# Altium integrated library TI Data Converters Analog to Digital Converter.IntLib: 2197 symbols (part 93 of 168)
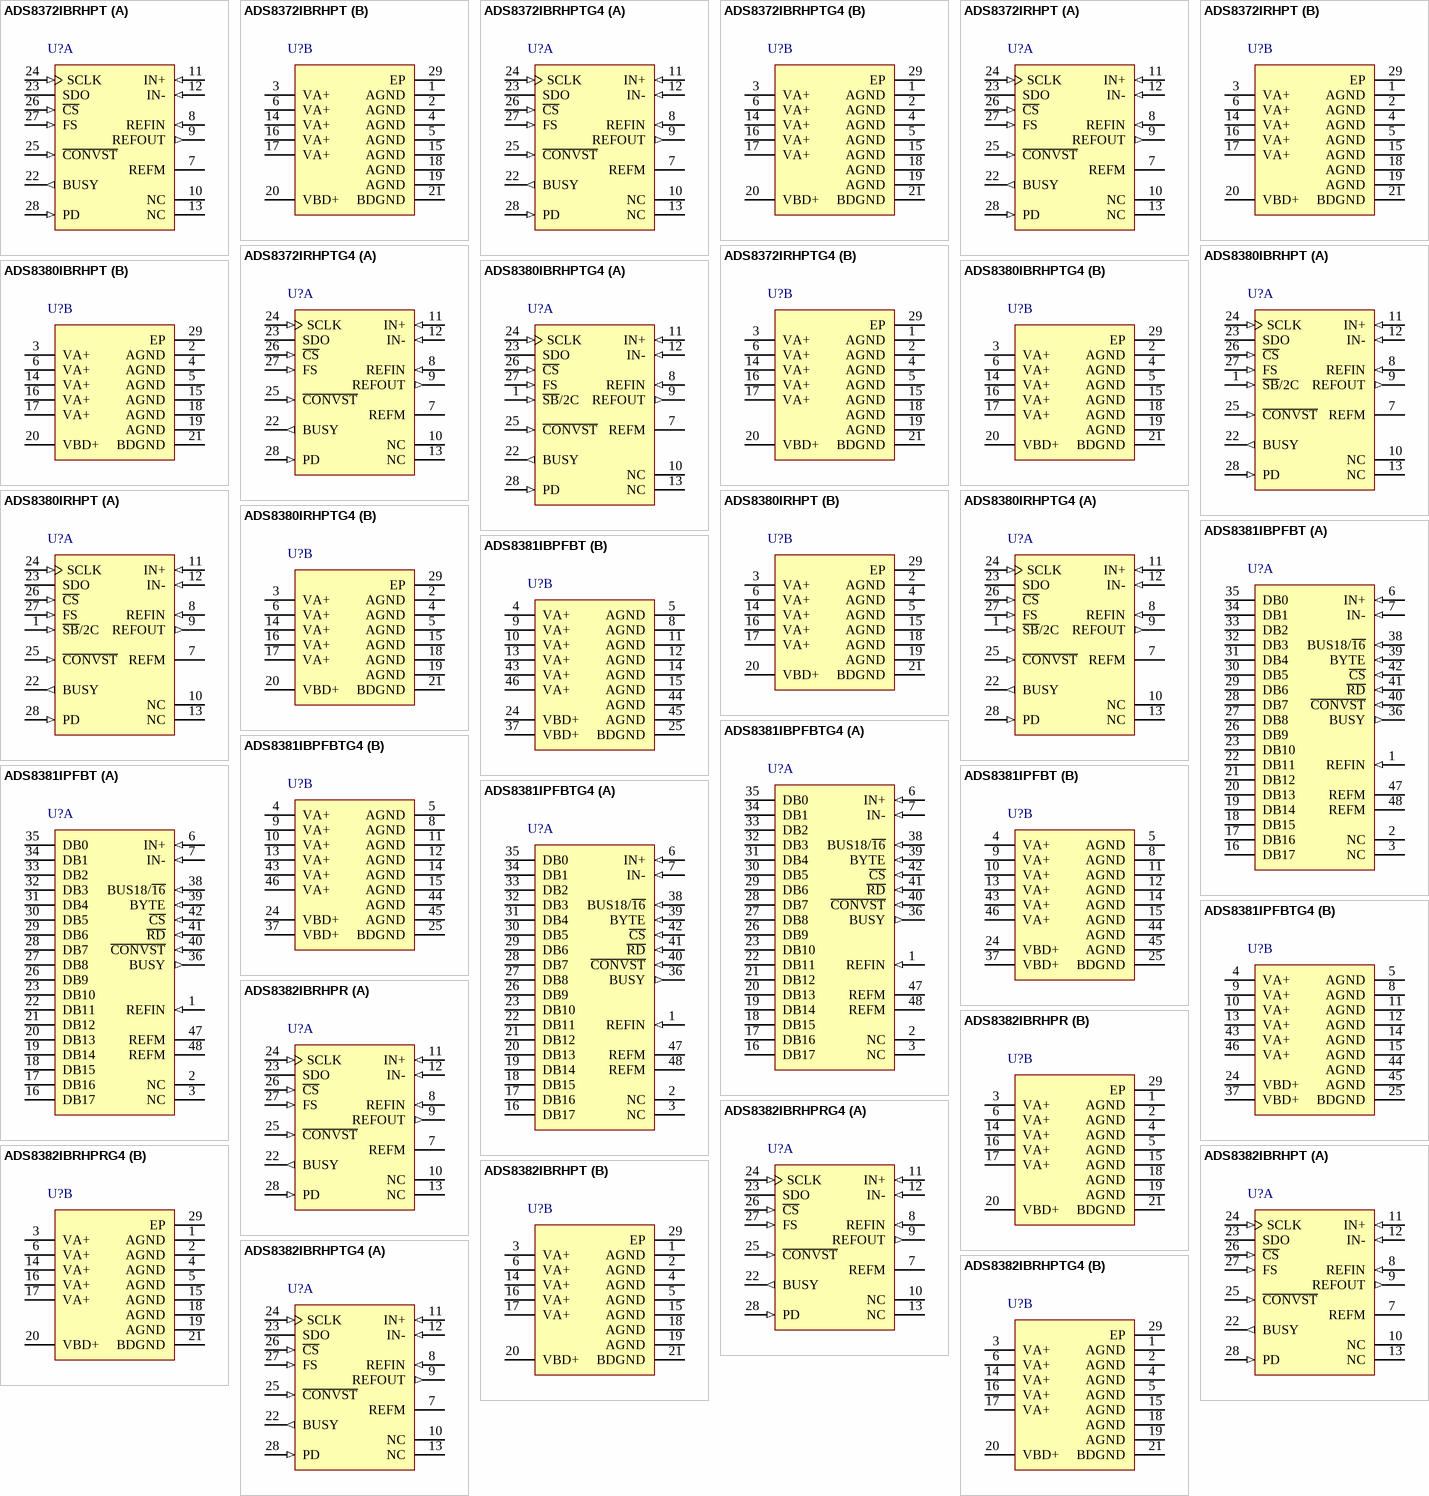
[diagram p218: symbols ADS8372IBRHPT to ADS8382IBRHPTG4]

## ADS8382IBRHPR
designator U?
18-Bit 600 kSPS Serial ADC with Reference and Pseudo Bipolar, Fully Differential Input, -40 to 85 degC, 28-pin QFN (RHP28), Green (RoHS & no Sb/Br); Manufacturer: Texas Instruments; PartNumber: ADS8382IBRHPR; # Input Channels: 1; Analog Voltage AV/DD(Max)(V): 5.25; Analog Voltage AV/DD(Min)(V): 4.75; Architecture: SAR; Digital Supply(Min)(V): 2.7; INL(Max)(+/-LSB): 3; Interface: Serial SPI; Resolution(Bits): 18; Sample Rate (max)(SPS): 600k; SFDR(dB): 120; SINAD(dB): 96; SubFamily: Precision ADC (<=10MSPS); DatasheetVersion: SLAS416B; PackageVersion: 4205387/C, 01/2011; PackageReference: RHP28-4450X4450TP; PackageDescription: 28-Lead, Plastic Flat Pack, Body Size 6 x 6 mm, Pitch 0.65 mm; Supplier 1: Digi-Key; Supplier Part Number 1: ADS7815U/1KE4-ND; Supplier 2: Mouser; Supplier Part Number 2: 595-ADS7815U/1KE4; Digital Supply(Max)(V): 5.25; Eco-Plan: Green (RoHS & no Sb/Br); SNR(dB): 96; Mounting Technology: Surface Mount; ComponentLink1Description: Manufacturer URL; ComponentLink1URL: http://www.ti.com/; ComponentLink2Description: Datasheet; ComponentLink2URL: http://www.ti.com/general/docs/lit/getliterature.tsp?genericPartNumber=ADS8382&fileType=pdf; ComponentLink3Description: Package Specification; ComponentLink3URL: http://www.ti.com/litv/pdf/mpqf154b
footprint TI-RHP28-4450X4450TP_V (QFN, 28-Leads, Body 6x6mm, Pitch 0.65mm, Thermal Pad 4.45x4.45mm)
part A pins: 7 REFM (power) "Reference ground. To be connected to analog ground plane.", 8 REFIN (in) "Reference (positive) input. REFIN must be decoupled with REFM pin using 0.1-uF bypass capacitor and 1-uF storage capacitor.", 9 REFOUT (out) "Internal reference output. Shorted to REFIN pin only when internal reference is used.", 10 NC "No connection", 11 IN+ (in) "Noninverting analog input channel", 12 IN- (in) "Inverting analog input channel", 13 NC "No connection", 22 BUSY (out) "Status output. This pin is high when conversion is in progress.", 23 SDO (hiz) "Serial data out. All bits except MSB are shifted out at the rising edge of SCLK.", 24 SCLK (in) "Serial clock. Data is shifted onto SDO with the rising edge of this clock. This signal is qualified with C\S\ internally.", 25 ~{CONVST} (in) "Convert start. This signal is qualified with C\S\ internally.", 26 ~{CS} (in) "Chip select", 27 FS (in) "Frame sync. This signal is qualified with C\S\ internally.", 28 PD (in) "Power down. Device resets and powers down when this signal is high."
part B pins: 1 AGND (power) "Analog ground pins. AGND must be shorted to analog ground plane below the device.", 2 AGND (power) "Analog ground pins. AGND must be shorted to analog ground plane below the device.", 3 VA+ (power) "Analog power supplies", 4 AGND (power) "Analog ground pins. AGND must be shorted to analog ground plane below the device.", 5 AGND (power) "Analog ground pins. AGND must be shorted to analog ground plane below the device.", 6 VA+ (power) "Analog power supplies", 14 VA+ (power) "Analog power supplies", 15 AGND (power) "Analog ground pins. AGND must be shorted to analog ground plane below the device.", 16 VA+ (power) "Analog power supplies", 17 VA+ (power) "Analog power supplies", 18 AGND (power) "Analog ground pins. AGND must be shorted to analog ground plane below the device.", 19 AGND (power) "Analog ground pins. AGND must be shorted to analog ground plane below the device.", 20 VBD+ (power) "Digital power supply for all digital inputs and outputs.", 21 BDGND (power) "Digital ground for all digital inputs and outputs. BDGND must be shorted to the analog ground plane below the device.", 29 EP "The package thermal pad must be soldered to the printed circuit board for thermal and mechanical performance"

## ADS8382IBRHPRG4
designator U?
18-Bit 600 kSPS Serial ADC with Reference and Pseudo Bipolar, Fully Differential Input, -40 to 85 degC, 28-pin QFN (RHP28), Green (RoHS & no Sb/Br); Manufacturer: Texas Instruments; PartNumber: ADS8382IBRHPRG4; # Input Channels: 1; Analog Voltage AV/DD(Max)(V): 5.25; Analog Voltage AV/DD(Min)(V): 4.75; Architecture: SAR; Digital Supply(Min)(V): 2.7; INL(Max)(+/-LSB): 3; Interface: Serial SPI; Resolution(Bits): 18; Sample Rate (max)(SPS): 600k; SFDR(dB): 120; SINAD(dB): 96; SubFamily: Precision ADC (<=10MSPS); DatasheetVersion: SLAS416B; PackageVersion: 4205387/C, 01/2011; PackageReference: RHP28-4450X4450TP; PackageDescription: 28-Lead, Plastic Flat Pack, Body Size 6 x 6 mm, Pitch 0.65 mm; Supplier 1: Digi-Key; Supplier Part Number 1: ADS7815UE4-ND; Supplier 2: Farnell; Supplier Part Number 2: 1206867; Supplier 3: Mouser; Supplier Part Number 3: 595-ADS7815UE4; Digital Supply(Max)(V): 5.25; Eco-Plan: Green (RoHS & no Sb/Br); SNR(dB): 96; Mounting Technology: Surface Mount; ComponentLink1Description: Manufacturer URL; ComponentLink1URL: http://www.ti.com/; ComponentLink2Description: Datasheet; ComponentLink2URL: http://www.ti.com/general/docs/lit/getliterature.tsp?genericPartNumber=ADS8382&fileType=pdf; ComponentLink3Description: Package Specification; ComponentLink3URL: http://www.ti.com/litv/pdf/mpqf154b
footprint TI-RHP28-4450X4450TP_V (QFN, 28-Leads, Body 6x6mm, Pitch 0.65mm, Thermal Pad 4.45x4.45mm)
part A pins: 7 REFM (power) "Reference ground. To be connected to analog ground plane.", 8 REFIN (in) "Reference (positive) input. REFIN must be decoupled with REFM pin using 0.1-uF bypass capacitor and 1-uF storage capacitor.", 9 REFOUT (out) "Internal reference output. Shorted to REFIN pin only when internal reference is used.", 10 NC "No connection", 11 IN+ (in) "Noninverting analog input channel", 12 IN- (in) "Inverting analog input channel", 13 NC "No connection", 22 BUSY (out) "Status output. This pin is high when conversion is in progress.", 23 SDO (hiz) "Serial data out. All bits except MSB are shifted out at the rising edge of SCLK.", 24 SCLK (in) "Serial clock. Data is shifted onto SDO with the rising edge of this clock. This signal is qualified with C\S\ internally.", 25 ~{CONVST} (in) "Convert start. This signal is qualified with C\S\ internally.", 26 ~{CS} (in) "Chip select", 27 FS (in) "Frame sync. This signal is qualified with C\S\ internally.", 28 PD (in) "Power down. Device resets and powers down when this signal is high."
part B pins: 1 AGND (power) "Analog ground pins. AGND must be shorted to analog ground plane below the device.", 2 AGND (power) "Analog ground pins. AGND must be shorted to analog ground plane below the device.", 3 VA+ (power) "Analog power supplies", 4 AGND (power) "Analog ground pins. AGND must be shorted to analog ground plane below the device.", 5 AGND (power) "Analog ground pins. AGND must be shorted to analog ground plane below the device.", 6 VA+ (power) "Analog power supplies", 14 VA+ (power) "Analog power supplies", 15 AGND (power) "Analog ground pins. AGND must be shorted to analog ground plane below the device.", 16 VA+ (power) "Analog power supplies", 17 VA+ (power) "Analog power supplies", 18 AGND (power) "Analog ground pins. AGND must be shorted to analog ground plane below the device.", 19 AGND (power) "Analog ground pins. AGND must be shorted to analog ground plane below the device.", 20 VBD+ (power) "Digital power supply for all digital inputs and outputs.", 21 BDGND (power) "Digital ground for all digital inputs and outputs. BDGND must be shorted to the analog ground plane below the device.", 29 EP "The package thermal pad must be soldered to the printed circuit board for thermal and mechanical performance"

## ADS8382IBRHPT
designator U?
18-Bit 600 kSPS Serial ADC with Reference and Pseudo Bipolar, Fully Differential Input, -40 to 85 degC, 28-pin QFN (RHP28), Green (RoHS & no Sb/Br); Manufacturer: Texas Instruments; PartNumber: ADS8382IBRHPT; # Input Channels: 1; Analog Voltage AV/DD(Max)(V): 5.25; Analog Voltage AV/DD(Min)(V): 4.75; Architecture: SAR; Digital Supply(Min)(V): 2.7; INL(Max)(+/-LSB): 3; Interface: Serial SPI; Resolution(Bits): 18; Sample Rate (max)(SPS): 600k; SFDR(dB): 120; SINAD(dB): 96; SubFamily: Precision ADC (<=10MSPS); DatasheetVersion: SLAS416B; PackageVersion: 4205387/C, 01/2011; PackageReference: RHP28-4450X4450TP; PackageDescription: 28-Lead, Plastic Flat Pack, Body Size 6 x 6 mm, Pitch 0.65 mm; Supplier 1: Digi-Key; Supplier Part Number 1: ADS7815UG4-ND; Supplier 2: Mouser; Supplier Part Number 2: 595-ADS7815UG4; Digital Supply(Max)(V): 5.25; Eco-Plan: Green (RoHS & no Sb/Br); SNR(dB): 96; Mounting Technology: Surface Mount; ComponentLink1Description: Manufacturer URL; ComponentLink1URL: http://www.ti.com/; ComponentLink2Description: Datasheet; ComponentLink2URL: http://www.ti.com/general/docs/lit/getliterature.tsp?genericPartNumber=ADS8382&fileType=pdf; ComponentLink3Description: Package Specification; ComponentLink3URL: http://www.ti.com/litv/pdf/mpqf154b
footprint TI-RHP28-4450X4450TP_V (QFN, 28-Leads, Body 6x6mm, Pitch 0.65mm, Thermal Pad 4.45x4.45mm)
part A pins: 7 REFM (power) "Reference ground. To be connected to analog ground plane.", 8 REFIN (in) "Reference (positive) input. REFIN must be decoupled with REFM pin using 0.1-uF bypass capacitor and 1-uF storage capacitor.", 9 REFOUT (out) "Internal reference output. Shorted to REFIN pin only when internal reference is used.", 10 NC "No connection", 11 IN+ (in) "Noninverting analog input channel", 12 IN- (in) "Inverting analog input channel", 13 NC "No connection", 22 BUSY (out) "Status output. This pin is high when conversion is in progress.", 23 SDO (hiz) "Serial data out. All bits except MSB are shifted out at the rising edge of SCLK.", 24 SCLK (in) "Serial clock. Data is shifted onto SDO with the rising edge of this clock. This signal is qualified with C\S\ internally.", 25 ~{CONVST} (in) "Convert start. This signal is qualified with C\S\ internally.", 26 ~{CS} (in) "Chip select", 27 FS (in) "Frame sync. This signal is qualified with C\S\ internally.", 28 PD (in) "Power down. Device resets and powers down when this signal is high."
part B pins: 1 AGND (power) "Analog ground pins. AGND must be shorted to analog ground plane below the device.", 2 AGND (power) "Analog ground pins. AGND must be shorted to analog ground plane below the device.", 3 VA+ (power) "Analog power supplies", 4 AGND (power) "Analog ground pins. AGND must be shorted to analog ground plane below the device.", 5 AGND (power) "Analog ground pins. AGND must be shorted to analog ground plane below the device.", 6 VA+ (power) "Analog power supplies", 14 VA+ (power) "Analog power supplies", 15 AGND (power) "Analog ground pins. AGND must be shorted to analog ground plane below the device.", 16 VA+ (power) "Analog power supplies", 17 VA+ (power) "Analog power supplies", 18 AGND (power) "Analog ground pins. AGND must be shorted to analog ground plane below the device.", 19 AGND (power) "Analog ground pins. AGND must be shorted to analog ground plane below the device.", 20 VBD+ (power) "Digital power supply for all digital inputs and outputs.", 21 BDGND (power) "Digital ground for all digital inputs and outputs. BDGND must be shorted to the analog ground plane below the device.", 29 EP "The package thermal pad must be soldered to the printed circuit board for thermal and mechanical performance"

## ADS8382IBRHPTG4
designator U?
18-Bit 600 kSPS Serial ADC with Reference and Pseudo Bipolar, Fully Differential Input, -40 to 85 degC, 28-pin QFN (RHP28), Green (RoHS & no Sb/Br); Manufacturer: Texas Instruments; PartNumber: ADS8382IBRHPTG4; # Input Channels: 1; Analog Voltage AV/DD(Max)(V): 5.25; Analog Voltage AV/DD(Min)(V): 4.75; Architecture: SAR; Digital Supply(Min)(V): 2.7; INL(Max)(+/-LSB): 3; Interface: Serial SPI; Resolution(Bits): 18; Sample Rate (max)(SPS): 600k; SFDR(dB): 120; SINAD(dB): 96; SubFamily: Precision ADC (<=10MSPS); DatasheetVersion: SLAS416B; PackageVersion: 4205387/C, 01/2011; PackageReference: RHP28-4450X4450TP; PackageDescription: 28-Lead, Plastic Flat Pack, Body Size 6 x 6 mm, Pitch 0.65 mm; Supplier 1: Digi-Key; Supplier Part Number 1: ADS1213E-ND; Supplier 2: Farnell; Supplier Part Number 2: 9324089; Supplier 3: Newark; Supplier Part Number 3: 74C6980; Supplier 4: Mouser; Supplier Part Number 4: 595-ADS1213E; Digital Supply(Max)(V): 5.25; Eco-Plan: Green (RoHS & no Sb/Br); SNR(dB): 96; Mounting Technology: Surface Mount; ComponentLink1Description: Manufacturer URL; ComponentLink1URL: http://www.ti.com/; ComponentLink2Description: Datasheet; ComponentLink2URL: http://www.ti.com/general/docs/lit/getliterature.tsp?genericPartNumber=ADS8382&fileType=pdf; ComponentLink3Description: Package Specification; ComponentLink3URL: http://www.ti.com/litv/pdf/mpqf154b
footprint TI-RHP28-4450X4450TP_V (QFN, 28-Leads, Body 6x6mm, Pitch 0.65mm, Thermal Pad 4.45x4.45mm)
part A pins: 7 REFM (power) "Reference ground. To be connected to analog ground plane.", 8 REFIN (in) "Reference (positive) input. REFIN must be decoupled with REFM pin using 0.1-uF bypass capacitor and 1-uF storage capacitor.", 9 REFOUT (out) "Internal reference output. Shorted to REFIN pin only when internal reference is used.", 10 NC "No connection", 11 IN+ (in) "Noninverting analog input channel", 12 IN- (in) "Inverting analog input channel", 13 NC "No connection", 22 BUSY (out) "Status output. This pin is high when conversion is in progress.", 23 SDO (hiz) "Serial data out. All bits except MSB are shifted out at the rising edge of SCLK.", 24 SCLK (in) "Serial clock. Data is shifted onto SDO with the rising edge of this clock. This signal is qualified with C\S\ internally.", 25 ~{CONVST} (in) "Convert start. This signal is qualified with C\S\ internally.", 26 ~{CS} (in) "Chip select", 27 FS (in) "Frame sync. This signal is qualified with C\S\ internally.", 28 PD (in) "Power down. Device resets and powers down when this signal is high."
part B pins: 1 AGND (power) "Analog ground pins. AGND must be shorted to analog ground plane below the device.", 2 AGND (power) "Analog ground pins. AGND must be shorted to analog ground plane below the device.", 3 VA+ (power) "Analog power supplies", 4 AGND (power) "Analog ground pins. AGND must be shorted to analog ground plane below the device.", 5 AGND (power) "Analog ground pins. AGND must be shorted to analog ground plane below the device.", 6 VA+ (power) "Analog power supplies", 14 VA+ (power) "Analog power supplies", 15 AGND (power) "Analog ground pins. AGND must be shorted to analog ground plane below the device.", 16 VA+ (power) "Analog power supplies", 17 VA+ (power) "Analog power supplies", 18 AGND (power) "Analog ground pins. AGND must be shorted to analog ground plane below the device.", 19 AGND (power) "Analog ground pins. AGND must be shorted to analog ground plane below the device.", 20 VBD+ (power) "Digital power supply for all digital inputs and outputs.", 21 BDGND (power) "Digital ground for all digital inputs and outputs. BDGND must be shorted to the analog ground plane below the device.", 29 EP "The package thermal pad must be soldered to the printed circuit board for thermal and mechanical performance"

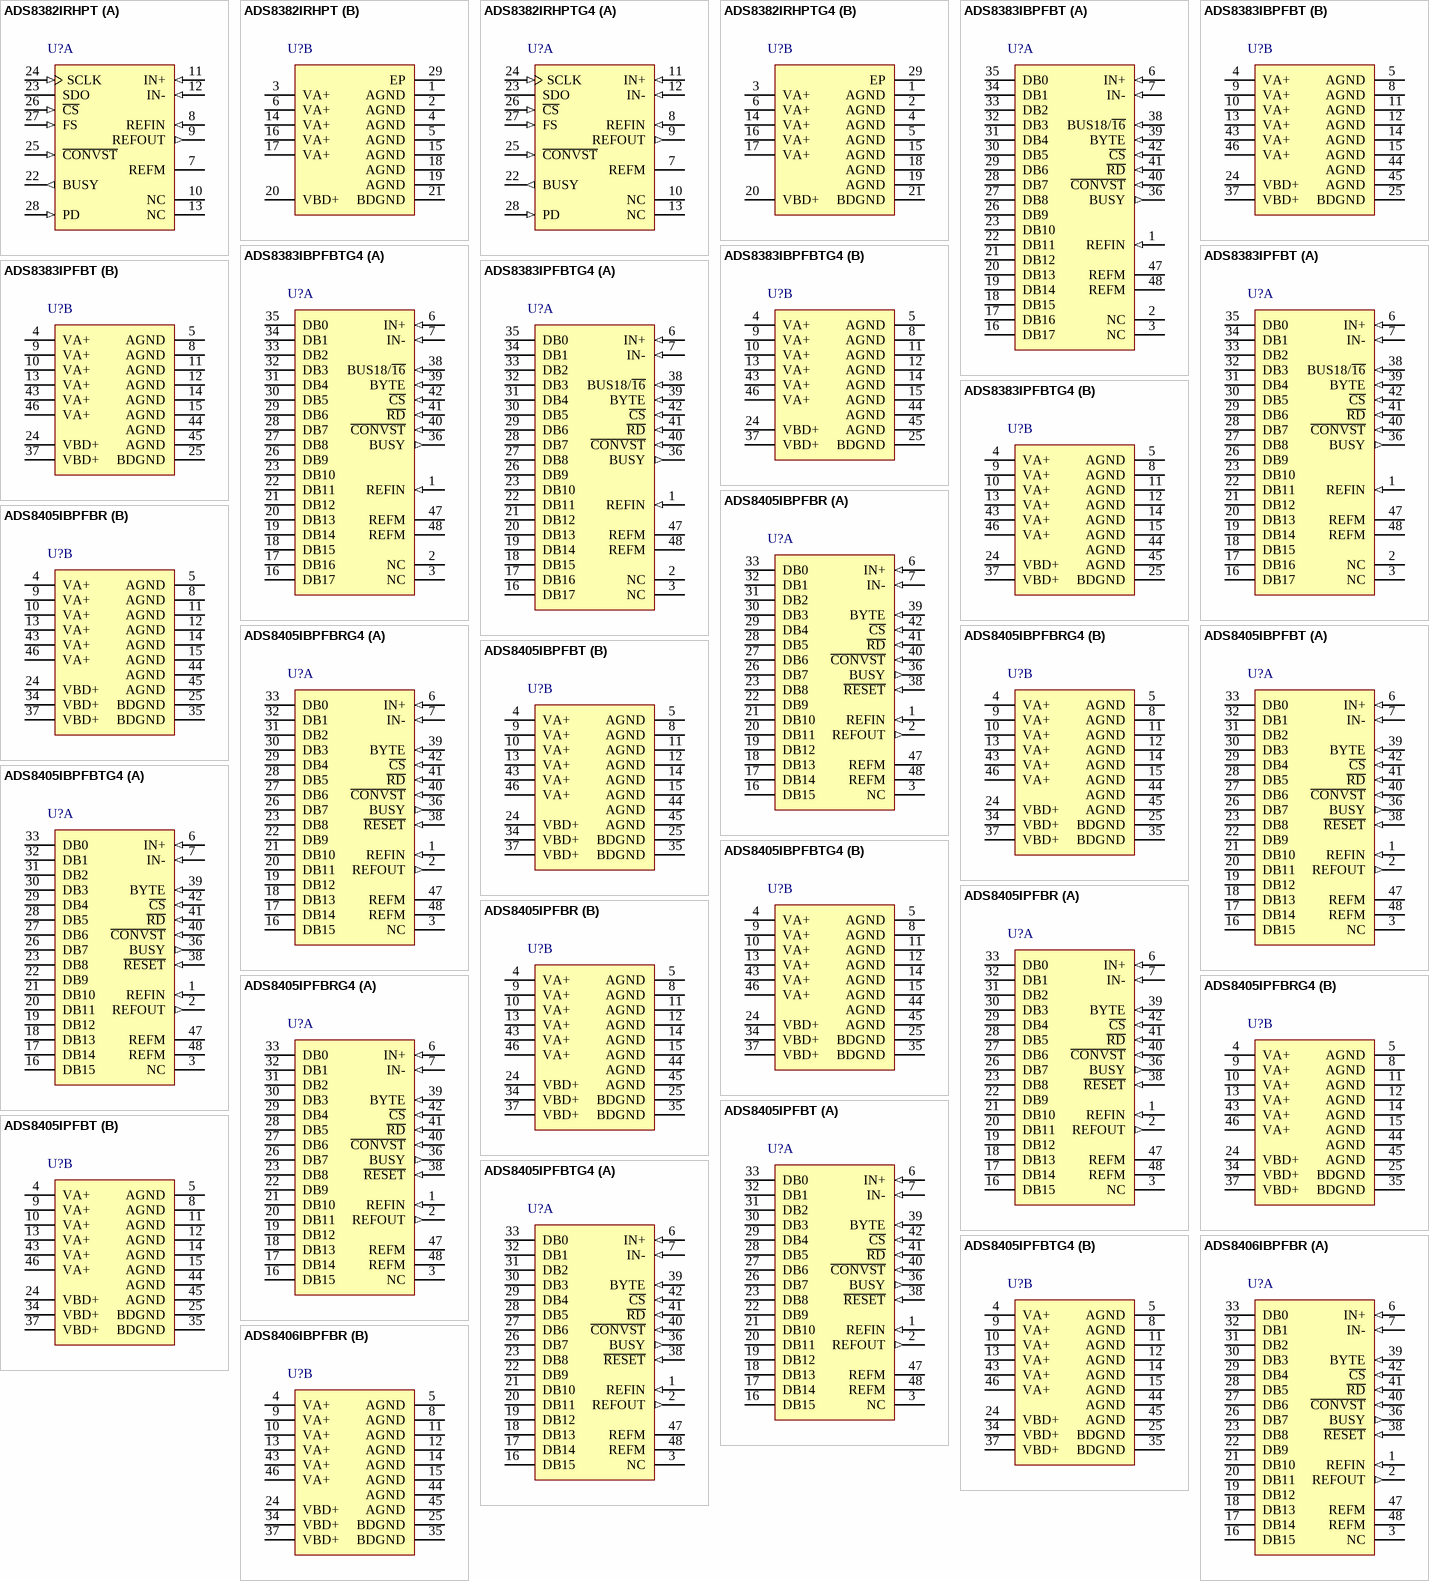
[diagram p80: symbols ADS8382IRHPT to ADS8406IBPFBR]

## ADS8382IRHPT
designator U?
18-Bit 600 kSPS Serial ADC with Reference and Pseudo Bipolar, Fully Differential Input, -40 to 85 degC, 28-pin QFN (RHP28), Green (RoHS & no Sb/Br); Manufacturer: Texas Instruments; PartNumber: ADS8382IRHPT; # Input Channels: 1; Analog Voltage AV/DD(Max)(V): 5.25; Analog Voltage AV/DD(Min)(V): 4.75; Architecture: SAR; Digital Supply(Min)(V): 2.7; INL(Max)(+/-LSB): 5; Interface: Serial SPI; Resolution(Bits): 18; Sample Rate (max)(SPS): 600k; SFDR(dB): 120; SINAD(dB): 96; SubFamily: Precision ADC (<=10MSPS); DatasheetVersion: SLAS416B; PackageVersion: 4205387/C, 01/2011; PackageReference: RHP28-4450X4450TP; PackageDescription: 28-Lead, Plastic Flat Pack, Body Size 6 x 6 mm, Pitch 0.65 mm; Supplier 1: Digi-Key; Supplier Part Number 1: ADS1213E/1K-ND; Supplier 2: Mouser; Supplier Part Number 2: 595-ADS1213E/1K; Digital Supply(Max)(V): 5.25; Eco-Plan: Green (RoHS & no Sb/Br); SNR(dB): 96; Mounting Technology: Surface Mount; ComponentLink1Description: Manufacturer URL; ComponentLink1URL: http://www.ti.com/; ComponentLink2Description: Datasheet; ComponentLink2URL: http://www.ti.com/general/docs/lit/getliterature.tsp?genericPartNumber=ADS8382&fileType=pdf; ComponentLink3Description: Package Specification; ComponentLink3URL: http://www.ti.com/litv/pdf/mpqf154b
footprint TI-RHP28-4450X4450TP_V (QFN, 28-Leads, Body 6x6mm, Pitch 0.65mm, Thermal Pad 4.45x4.45mm)
part A pins: 7 REFM (power) "Reference ground. To be connected to analog ground plane.", 8 REFIN (in) "Reference (positive) input. REFIN must be decoupled with REFM pin using 0.1-uF bypass capacitor and 1-uF storage capacitor.", 9 REFOUT (out) "Internal reference output. Shorted to REFIN pin only when internal reference is used.", 10 NC "No connection", 11 IN+ (in) "Noninverting analog input channel", 12 IN- (in) "Inverting analog input channel", 13 NC "No connection", 22 BUSY (out) "Status output. This pin is high when conversion is in progress.", 23 SDO (hiz) "Serial data out. All bits except MSB are shifted out at the rising edge of SCLK.", 24 SCLK (in) "Serial clock. Data is shifted onto SDO with the rising edge of this clock. This signal is qualified with C\S\ internally.", 25 ~{CONVST} (in) "Convert start. This signal is qualified with C\S\ internally.", 26 ~{CS} (in) "Chip select", 27 FS (in) "Frame sync. This signal is qualified with C\S\ internally.", 28 PD (in) "Power down. Device resets and powers down when this signal is high."
part B pins: 1 AGND (power) "Analog ground pins. AGND must be shorted to analog ground plane below the device.", 2 AGND (power) "Analog ground pins. AGND must be shorted to analog ground plane below the device.", 3 VA+ (power) "Analog power supplies", 4 AGND (power) "Analog ground pins. AGND must be shorted to analog ground plane below the device.", 5 AGND (power) "Analog ground pins. AGND must be shorted to analog ground plane below the device.", 6 VA+ (power) "Analog power supplies", 14 VA+ (power) "Analog power supplies", 15 AGND (power) "Analog ground pins. AGND must be shorted to analog ground plane below the device.", 16 VA+ (power) "Analog power supplies", 17 VA+ (power) "Analog power supplies", 18 AGND (power) "Analog ground pins. AGND must be shorted to analog ground plane below the device.", 19 AGND (power) "Analog ground pins. AGND must be shorted to analog ground plane below the device.", 20 VBD+ (power) "Digital power supply for all digital inputs and outputs.", 21 BDGND (power) "Digital ground for all digital inputs and outputs. BDGND must be shorted to the analog ground plane below the device.", 29 EP "The package thermal pad must be soldered to the printed circuit board for thermal and mechanical performance"

## ADS8382IRHPTG4
designator U?
18-Bit 600 kSPS Serial ADC with Reference and Pseudo Bipolar, Fully Differential Input, -40 to 85 degC, 28-pin QFN (RHP28), Green (RoHS & no Sb/Br); Manufacturer: Texas Instruments; PartNumber: ADS8382IRHPTG4; # Input Channels: 1; Analog Voltage AV/DD(Max)(V): 5.25; Analog Voltage AV/DD(Min)(V): 4.75; Architecture: SAR; Digital Supply(Min)(V): 2.7; INL(Max)(+/-LSB): 5; Interface: Serial SPI; Resolution(Bits): 18; Sample Rate (max)(SPS): 600k; SFDR(dB): 120; SINAD(dB): 96; SubFamily: Precision ADC (<=10MSPS); DatasheetVersion: SLAS416B; PackageVersion: 4205387/C, 01/2011; PackageReference: RHP28-4450X4450TP; PackageDescription: 28-Lead, Plastic Flat Pack, Body Size 6 x 6 mm, Pitch 0.65 mm; Supplier 1: Digi-Key; Supplier Part Number 1: ADS1213E/1KG4-ND; Supplier 2: Mouser; Supplier Part Number 2: 595-ADS1213E/1KG4; Digital Supply(Max)(V): 5.25; Eco-Plan: Green (RoHS & no Sb/Br); SNR(dB): 96; Mounting Technology: Surface Mount; ComponentLink1Description: Manufacturer URL; ComponentLink1URL: http://www.ti.com/; ComponentLink2Description: Datasheet; ComponentLink2URL: http://www.ti.com/general/docs/lit/getliterature.tsp?genericPartNumber=ADS8382&fileType=pdf; ComponentLink3Description: Package Specification; ComponentLink3URL: http://www.ti.com/litv/pdf/mpqf154b
footprint TI-RHP28-4450X4450TP_V (QFN, 28-Leads, Body 6x6mm, Pitch 0.65mm, Thermal Pad 4.45x4.45mm)
part A pins: 7 REFM (power) "Reference ground. To be connected to analog ground plane.", 8 REFIN (in) "Reference (positive) input. REFIN must be decoupled with REFM pin using 0.1-uF bypass capacitor and 1-uF storage capacitor.", 9 REFOUT (out) "Internal reference output. Shorted to REFIN pin only when internal reference is used.", 10 NC "No connection", 11 IN+ (in) "Noninverting analog input channel", 12 IN- (in) "Inverting analog input channel", 13 NC "No connection", 22 BUSY (out) "Status output. This pin is high when conversion is in progress.", 23 SDO (hiz) "Serial data out. All bits except MSB are shifted out at the rising edge of SCLK.", 24 SCLK (in) "Serial clock. Data is shifted onto SDO with the rising edge of this clock. This signal is qualified with C\S\ internally.", 25 ~{CONVST} (in) "Convert start. This signal is qualified with C\S\ internally.", 26 ~{CS} (in) "Chip select", 27 FS (in) "Frame sync. This signal is qualified with C\S\ internally.", 28 PD (in) "Power down. Device resets and powers down when this signal is high."
part B pins: 1 AGND (power) "Analog ground pins. AGND must be shorted to analog ground plane below the device.", 2 AGND (power) "Analog ground pins. AGND must be shorted to analog ground plane below the device.", 3 VA+ (power) "Analog power supplies", 4 AGND (power) "Analog ground pins. AGND must be shorted to analog ground plane below the device.", 5 AGND (power) "Analog ground pins. AGND must be shorted to analog ground plane below the device.", 6 VA+ (power) "Analog power supplies", 14 VA+ (power) "Analog power supplies", 15 AGND (power) "Analog ground pins. AGND must be shorted to analog ground plane below the device.", 16 VA+ (power) "Analog power supplies", 17 VA+ (power) "Analog power supplies", 18 AGND (power) "Analog ground pins. AGND must be shorted to analog ground plane below the device.", 19 AGND (power) "Analog ground pins. AGND must be shorted to analog ground plane below the device.", 20 VBD+ (power) "Digital power supply for all digital inputs and outputs.", 21 BDGND (power) "Digital ground for all digital inputs and outputs. BDGND must be shorted to the analog ground plane below the device.", 29 EP "The package thermal pad must be soldered to the printed circuit board for thermal and mechanical performance"

## ADS8383IBPFBT
designator U?
18-Bit 500 kSPS Parallel ADC, -40 to 85 degC, 48-pin QFP (PFB48), Green (RoHS & no Sb/Br); Manufacturer: Texas Instruments; PartNumber: ADS8383IBPFBT; # Input Channels: 1; Analog Voltage AV/DD(Max)(V): 5.25; Analog Voltage AV/DD(Min)(V): 4.75; Architecture: SAR; Digital Supply(Min)(V): 2.95; INL(Max)(+/-LSB): 7; Interface: Parallel CMOS; Resolution(Bits): 18; Sample Rate (max)(SPS): 500k; SFDR(dB): 112; SINAD(dB): 87; SNR(dB): 88; SubFamily: Precision ADC (<=10MSPS); DatasheetVersion: SLAS005C; PackageVersion: 4073176/B, 10/1996; PackageReference: PFB48; PackageDescription: 48-Pin Plastic Flat Pack, Body 7 x 7 mm, Pitch 0.5 mm; Supplier 1: Digi-Key; Supplier Part Number 1: ADS1213EG4-ND; Supplier 2: Mouser; Supplier Part Number 2: 595-ADS1213EG4; Digital Supply(Max)(V): 5.25; Eco-Plan: Green (RoHS & no Sb/Br); Mounting Technology: Surface Mount; Code_JEDEC: MS-026; ComponentLink1Description: Manufacturer URL; ComponentLink1URL: http://www.ti.com/; ComponentLink2Description: Datasheet; ComponentLink2URL: http://www.ti.com/general/docs/lit/getliterature.tsp?genericPartNumber=ADS8383&fileType=pdf; ComponentLink3Description: Package Specification; ComponentLink3URL: http://www.ti.com/lit/ml/mtqf019a/mtqf019a.pdf
footprint TI-PFB48_N (QFP, 48-Leads, Body 7x7mm, Pitch 0.5mm, IPC Medium Density)
footprint TI-PFB48_L (QFP, 48-Leads, Body 7x7mm, Pitch 0.5mm, IPC High Density)
footprint TI-PFB48_M (QFP, 48-Leads, Body 7x7mm, Pitch 0.5mm, IPC Low Density)
part A pins: 1 REFIN (in) "Reference input.", 2 NC "No connection", 3 NC "No connection", 6 IN+ (in) "Noninverting input channel", 7 IN- (in) "Inverting input channel", 16 DB17 (hiz), 17 DB16 (hiz), 18 DB15 (hiz), 19 DB14 (hiz), 20 DB13 (hiz), 21 DB12 (hiz), 22 DB11 (hiz), 23 DB10 (hiz), 26 DB9 (hiz), 27 DB8 (hiz), 28 DB7 (hiz), 29 DB6 (hiz), 30 DB5 (hiz), 31 DB4 (hiz), 32 DB3 (hiz), 33 DB2 (hiz), 34 DB1 (hiz), 35 DB0 (hiz), 36 BUSY (out) "Status output. High when a conversion is in progress.", 38 BUS18/~{16} (in), 39 BYTE (in) "Byte select input. Used for 8-bit bus reading. 0: No fold back 1: Low byte D[9:2] of the 16 most significant bits is folded back to high byte of the 16 most significant pins DB[17:10].", 40 ~{CONVST} (in) "Convert start. The falling edge of this input ends the acquisition period and starts the hold period.", 41 ~{RD} (in) "Synchronization pulse for the parallel output. When C\S\ is low, this serves as the output enable and puts the previous conversion result on the bus.", 42 ~{CS} (in) "Chip select. The falling edge of this input starts the acquisition period.", 47 REFM (power) "Reference ground.", 48 REFM (power) "Reference ground."
part B pins: 4 VA+ (power) "Analog power supplies, 5-V dc", 5 AGND (power) "Analog ground", 8 AGND (power) "Analog ground", 9 VA+ (power) "Analog power supplies, 5-V dc", 10 VA+ (power) "Analog power supplies, 5-V dc", 11 AGND (power) "Analog ground", 12 AGND (power) "Analog ground", 13 VA+ (power) "Analog power supplies, 5-V dc", 14 AGND (power) "Analog ground", 15 AGND (power) "Analog ground", 24 VBD+ (power) "Digital power supply for buffer", 25 BDGND (power) "Digital ground for buffer supply", 37 VBD+ (power) "Digital power supply for buffer", 43 VA+ (power) "Analog power supplies, 5-V dc", 44 AGND (power) "Analog ground", 45 AGND (power) "Analog ground", 46 VA+ (power) "Analog power supplies, 5-V dc"

## ADS8383IBPFBTG4
designator U?
18-Bit 500 kSPS Parallel ADC, -40 to 85 degC, 48-pin QFP (PFB48), Green (RoHS & no Sb/Br); Manufacturer: Texas Instruments; PartNumber: ADS8383IBPFBTG4; # Input Channels: 1; Analog Voltage AV/DD(Max)(V): 5.25; Analog Voltage AV/DD(Min)(V): 4.75; Architecture: SAR; Digital Supply(Min)(V): 2.95; INL(Max)(+/-LSB): 7; Interface: Parallel CMOS; Resolution(Bits): 18; Sample Rate (max)(SPS): 500k; SFDR(dB): 112; SINAD(dB): 87; SNR(dB): 88; SubFamily: Precision ADC (<=10MSPS); DatasheetVersion: SLAS005C; PackageVersion: 4073176/B, 10/1996; PackageReference: PFB48; PackageDescription: 48-Pin Plastic Flat Pack, Body 7 x 7 mm, Pitch 0.5 mm; Supplier 1: Digi-Key; Supplier Part Number 1: ADS1213P-ND; Supplier 2: Farnell; Supplier Part Number 2: 8408980; Supplier 3: Newark; Supplier Part Number 3: 14M9330; Supplier 4: Mouser; Supplier Part Number 4: 595-ADS1213P; Digital Supply(Max)(V): 5.25; Eco-Plan: Green (RoHS & no Sb/Br); Mounting Technology: Surface Mount; Code_JEDEC: MS-026; ComponentLink1Description: Manufacturer URL; ComponentLink1URL: http://www.ti.com/; ComponentLink2Description: Datasheet; ComponentLink2URL: http://www.ti.com/general/docs/lit/getliterature.tsp?genericPartNumber=ADS8383&fileType=pdf; ComponentLink3Description: Package Specification; ComponentLink3URL: http://www.ti.com/lit/ml/mtqf019a/mtqf019a.pdf
footprint TI-PFB48_N (QFP, 48-Leads, Body 7x7mm, Pitch 0.5mm, IPC Medium Density)
footprint TI-PFB48_L (QFP, 48-Leads, Body 7x7mm, Pitch 0.5mm, IPC High Density)
footprint TI-PFB48_M (QFP, 48-Leads, Body 7x7mm, Pitch 0.5mm, IPC Low Density)
part A pins: 1 REFIN (in) "Reference input.", 2 NC "No connection", 3 NC "No connection", 6 IN+ (in) "Noninverting input channel", 7 IN- (in) "Inverting input channel", 16 DB17 (hiz), 17 DB16 (hiz), 18 DB15 (hiz), 19 DB14 (hiz), 20 DB13 (hiz), 21 DB12 (hiz), 22 DB11 (hiz), 23 DB10 (hiz), 26 DB9 (hiz), 27 DB8 (hiz), 28 DB7 (hiz), 29 DB6 (hiz), 30 DB5 (hiz), 31 DB4 (hiz), 32 DB3 (hiz), 33 DB2 (hiz), 34 DB1 (hiz), 35 DB0 (hiz), 36 BUSY (out) "Status output. High when a conversion is in progress.", 38 BUS18/~{16} (in), 39 BYTE (in) "Byte select input. Used for 8-bit bus reading. 0: No fold back 1: Low byte D[9:2] of the 16 most significant bits is folded back to high byte of the 16 most significant pins DB[17:10].", 40 ~{CONVST} (in) "Convert start. The falling edge of this input ends the acquisition period and starts the hold period.", 41 ~{RD} (in) "Synchronization pulse for the parallel output. When C\S\ is low, this serves as the output enable and puts the previous conversion result on the bus.", 42 ~{CS} (in) "Chip select. The falling edge of this input starts the acquisition period.", 47 REFM (power) "Reference ground.", 48 REFM (power) "Reference ground."
part B pins: 4 VA+ (power) "Analog power supplies, 5-V dc", 5 AGND (power) "Analog ground", 8 AGND (power) "Analog ground", 9 VA+ (power) "Analog power supplies, 5-V dc", 10 VA+ (power) "Analog power supplies, 5-V dc", 11 AGND (power) "Analog ground", 12 AGND (power) "Analog ground", 13 VA+ (power) "Analog power supplies, 5-V dc", 14 AGND (power) "Analog ground", 15 AGND (power) "Analog ground", 24 VBD+ (power) "Digital power supply for buffer", 25 BDGND (power) "Digital ground for buffer supply", 37 VBD+ (power) "Digital power supply for buffer", 43 VA+ (power) "Analog power supplies, 5-V dc", 44 AGND (power) "Analog ground", 45 AGND (power) "Analog ground", 46 VA+ (power) "Analog power supplies, 5-V dc"

## ADS8383IPFBT
designator U?
18-Bit 500 kSPS Parallel ADC, -40 to 85 degC, 48-pin QFP (PFB48), Green (RoHS & no Sb/Br); Manufacturer: Texas Instruments; PartNumber: ADS8383IPFBT; # Input Channels: 1; Analog Voltage AV/DD(Max)(V): 5.25; Analog Voltage AV/DD(Min)(V): 4.75; Architecture: SAR; Digital Supply(Min)(V): 2.95; INL(Max)(+/-LSB): 10; Interface: Parallel CMOS; Resolution(Bits): 17; Sample Rate (max)(SPS): 500k; SFDR(dB): 110; SINAD(dB): 86; SNR(dB): 87; SubFamily: Precision ADC (<=10MSPS); DatasheetVersion: SLAS005C; PackageVersion: 4073176/B, 10/1996; PackageReference: PFB48; PackageDescription: 48-Pin Plastic Flat Pack, Body 7 x 7 mm, Pitch 0.5 mm; Supplier 1: Digi-Key; Supplier Part Number 1: ADS1213PG4-ND; Supplier 2: Newark; Supplier Part Number 2: 26M8820; Supplier 3: Mouser; Supplier Part Number 3: 595-ADS1213PG4; Digital Supply(Max)(V): 5.25; Eco-Plan: Green (RoHS & no Sb/Br); Mounting Technology: Surface Mount; Code_JEDEC: MS-026; ComponentLink1Description: Manufacturer URL; ComponentLink1URL: http://www.ti.com/; ComponentLink2Description: Datasheet; ComponentLink2URL: http://www.ti.com/general/docs/lit/getliterature.tsp?genericPartNumber=ADS8383&fileType=pdf; ComponentLink3Description: Package Specification; ComponentLink3URL: http://www.ti.com/lit/ml/mtqf019a/mtqf019a.pdf
footprint TI-PFB48_N (QFP, 48-Leads, Body 7x7mm, Pitch 0.5mm, IPC Medium Density)
footprint TI-PFB48_L (QFP, 48-Leads, Body 7x7mm, Pitch 0.5mm, IPC High Density)
footprint TI-PFB48_M (QFP, 48-Leads, Body 7x7mm, Pitch 0.5mm, IPC Low Density)
part A pins: 1 REFIN (in) "Reference input.", 2 NC "No connection", 3 NC "No connection", 6 IN+ (in) "Noninverting input channel", 7 IN- (in) "Inverting input channel", 16 DB17 (hiz), 17 DB16 (hiz), 18 DB15 (hiz), 19 DB14 (hiz), 20 DB13 (hiz), 21 DB12 (hiz), 22 DB11 (hiz), 23 DB10 (hiz), 26 DB9 (hiz), 27 DB8 (hiz), 28 DB7 (hiz), 29 DB6 (hiz), 30 DB5 (hiz), 31 DB4 (hiz), 32 DB3 (hiz), 33 DB2 (hiz), 34 DB1 (hiz), 35 DB0 (hiz), 36 BUSY (out) "Status output. High when a conversion is in progress.", 38 BUS18/~{16} (in), 39 BYTE (in) "Byte select input. Used for 8-bit bus reading. 0: No fold back 1: Low byte D[9:2] of the 16 most significant bits is folded back to high byte of the 16 most significant pins DB[17:10].", 40 ~{CONVST} (in) "Convert start. The falling edge of this input ends the acquisition period and starts the hold period.", 41 ~{RD} (in) "Synchronization pulse for the parallel output. When C\S\ is low, this serves as the output enable and puts the previous conversion result on the bus.", 42 ~{CS} (in) "Chip select. The falling edge of this input starts the acquisition period.", 47 REFM (power) "Reference ground.", 48 REFM (power) "Reference ground."
part B pins: 4 VA+ (power) "Analog power supplies, 5-V dc", 5 AGND (power) "Analog ground", 8 AGND (power) "Analog ground", 9 VA+ (power) "Analog power supplies, 5-V dc", 10 VA+ (power) "Analog power supplies, 5-V dc", 11 AGND (power) "Analog ground", 12 AGND (power) "Analog ground", 13 VA+ (power) "Analog power supplies, 5-V dc", 14 AGND (power) "Analog ground", 15 AGND (power) "Analog ground", 24 VBD+ (power) "Digital power supply for buffer", 25 BDGND (power) "Digital ground for buffer supply", 37 VBD+ (power) "Digital power supply for buffer", 43 VA+ (power) "Analog power supplies, 5-V dc", 44 AGND (power) "Analog ground", 45 AGND (power) "Analog ground", 46 VA+ (power) "Analog power supplies, 5-V dc"

## ADS8383IPFBTG4
designator U?
18-Bit 500 kSPS Parallel ADC, -40 to 85 degC, 48-pin QFP (PFB48), Green (RoHS & no Sb/Br); Manufacturer: Texas Instruments; PartNumber: ADS8383IPFBTG4; # Input Channels: 1; Analog Voltage AV/DD(Max)(V): 5.25; Analog Voltage AV/DD(Min)(V): 4.75; Architecture: SAR; Digital Supply(Min)(V): 2.95; INL(Max)(+/-LSB): 10; Interface: Parallel CMOS; Resolution(Bits): 17; Sample Rate (max)(SPS): 500k; SFDR(dB): 110; SINAD(dB): 86; SNR(dB): 87; SubFamily: Precision ADC (<=10MSPS); DatasheetVersion: SLAS005C; PackageVersion: 4073176/B, 10/1996; PackageReference: PFB48; PackageDescription: 48-Pin Plastic Flat Pack, Body 7 x 7 mm, Pitch 0.5 mm; Supplier 1: Digi-Key; Supplier Part Number 1: ADS1213U-ND; Supplier 2: Newark; Supplier Part Number 2: 35C1517; Supplier 3: Mouser; Supplier Part Number 3: 595-ADS1213U; Digital Supply(Max)(V): 5.25; Eco-Plan: Green (RoHS & no Sb/Br); Mounting Technology: Surface Mount; Code_JEDEC: MS-026; ComponentLink1Description: Manufacturer URL; ComponentLink1URL: http://www.ti.com/; ComponentLink2Description: Datasheet; ComponentLink2URL: http://www.ti.com/general/docs/lit/getliterature.tsp?genericPartNumber=ADS8383&fileType=pdf; ComponentLink3Description: Package Specification; ComponentLink3URL: http://www.ti.com/lit/ml/mtqf019a/mtqf019a.pdf
footprint TI-PFB48_N (QFP, 48-Leads, Body 7x7mm, Pitch 0.5mm, IPC Medium Density)
footprint TI-PFB48_L (QFP, 48-Leads, Body 7x7mm, Pitch 0.5mm, IPC High Density)
footprint TI-PFB48_M (QFP, 48-Leads, Body 7x7mm, Pitch 0.5mm, IPC Low Density)
part A pins: 1 REFIN (in) "Reference input.", 2 NC "No connection", 3 NC "No connection", 6 IN+ (in) "Noninverting input channel", 7 IN- (in) "Inverting input channel", 16 DB17 (hiz), 17 DB16 (hiz), 18 DB15 (hiz), 19 DB14 (hiz), 20 DB13 (hiz), 21 DB12 (hiz), 22 DB11 (hiz), 23 DB10 (hiz), 26 DB9 (hiz), 27 DB8 (hiz), 28 DB7 (hiz), 29 DB6 (hiz), 30 DB5 (hiz), 31 DB4 (hiz), 32 DB3 (hiz), 33 DB2 (hiz), 34 DB1 (hiz), 35 DB0 (hiz), 36 BUSY (out) "Status output. High when a conversion is in progress.", 38 BUS18/~{16} (in), 39 BYTE (in) "Byte select input. Used for 8-bit bus reading. 0: No fold back 1: Low byte D[9:2] of the 16 most significant bits is folded back to high byte of the 16 most significant pins DB[17:10].", 40 ~{CONVST} (in) "Convert start. The falling edge of this input ends the acquisition period and starts the hold period.", 41 ~{RD} (in) "Synchronization pulse for the parallel output. When C\S\ is low, this serves as the output enable and puts the previous conversion result on the bus.", 42 ~{CS} (in) "Chip select. The falling edge of this input starts the acquisition period.", 47 REFM (power) "Reference ground.", 48 REFM (power) "Reference ground."
part B pins: 4 VA+ (power) "Analog power supplies, 5-V dc", 5 AGND (power) "Analog ground", 8 AGND (power) "Analog ground", 9 VA+ (power) "Analog power supplies, 5-V dc", 10 VA+ (power) "Analog power supplies, 5-V dc", 11 AGND (power) "Analog ground", 12 AGND (power) "Analog ground", 13 VA+ (power) "Analog power supplies, 5-V dc", 14 AGND (power) "Analog ground", 15 AGND (power) "Analog ground", 24 VBD+ (power) "Digital power supply for buffer", 25 BDGND (power) "Digital ground for buffer supply", 37 VBD+ (power) "Digital power supply for buffer", 43 VA+ (power) "Analog power supplies, 5-V dc", 44 AGND (power) "Analog ground", 45 AGND (power) "Analog ground", 46 VA+ (power) "Analog power supplies, 5-V dc"

## ADS8405IBPFBR
designator U?
16-Bit 1.25 MSPS Unipolar Input Micro Power Sampling ADC, -40 to 85 degC, 48-pin QFP (PFB48), Green (RoHS & no Sb/Br); Manufacturer: Texas Instruments; PartNumber: ADS8405IBPFBR; # Input Channels: 1; Analog Voltage AV/DD(Max)(V): 5.25; Analog Voltage AV/DD(Min)(V): 4.75; Architecture: SAR; Digital Supply(Min)(V): 2.7; INL(Max)(+/-LSB): 2; Interface: Parallel CMOS; Resolution(Bits): 16; Sample Rate (max)(SPS): 1.25M; SFDR(dB): 90; SINAD(dB): 85; SNR(dB): 86; SubFamily: Precision ADC (<=10MSPS); DatasheetVersion: SLAS427; PackageVersion: 4073176/B, 10/1996; PackageReference: PFB48; PackageDescription: 48-Pin Plastic Flat Pack, Body 7 x 7 mm, Pitch 0.5 mm; Supplier 1: Digi-Key; Supplier Part Number 1: ADS1213U/1K-ND; Supplier 2: Mouser; Supplier Part Number 2: 595-ADS1213U/1K; Digital Supply(Max)(V): 5.25; Eco-Plan: Green (RoHS & no Sb/Br); Mounting Technology: Surface Mount; Code_JEDEC: MS-026; ComponentLink1Description: Manufacturer URL; ComponentLink1URL: http://www.ti.com/; ComponentLink2Description: Datasheet; ComponentLink2URL: http://www.ti.com/general/docs/lit/getliterature.tsp?genericPartNumber=ADS8405&fileType=pdf; ComponentLink3Description: Package Specification; ComponentLink3URL: http://www.ti.com/lit/ml/mtqf019a/mtqf019a.pdf
footprint TI-PFB48_N (QFP, 48-Leads, Body 7x7mm, Pitch 0.5mm, IPC Medium Density)
footprint TI-PFB48_L (QFP, 48-Leads, Body 7x7mm, Pitch 0.5mm, IPC High Density)
footprint TI-PFB48_M (QFP, 48-Leads, Body 7x7mm, Pitch 0.5mm, IPC Low Density)
part A pins: 1 REFIN (in) "Reference input.", 2 REFOUT (out) "Reference output. Add 1 uF capacitor between the REFOUT pin and REFM pin when internal reference is used.", 3 NC "No connection", 6 IN+ (in) "Noninverting input channel", 7 IN- (in) "Inverting input channel", 16 DB15 (hiz), 17 DB14 (hiz), 18 DB13 (hiz), 19 DB12 (hiz), 20 DB11 (hiz), 21 DB10 (hiz), 22 DB9 (hiz), 23 DB8 (hiz), 26 DB7 (hiz), 27 DB6 (hiz), 28 DB5 (hiz), 29 DB4 (hiz), 30 DB3 (hiz), 31 DB2 (hiz), 32 DB1 (hiz), 33 DB0 (hiz), 36 BUSY (out) "Status output. High when a conversion is in progress.", 38 ~{RESET} (in) "Current conversion is aborted and output latches are cleared (set to zeros) when this pin is asserted low. R\E\S\E\T\ works independantly of C\S\.", 39 BYTE (in) "Byte select input. Used for 8-bit bus reading. 0: No fold back 1: Low byte D[7:0] of the 16 most significant bits is folded back to high byte of the 16 most significant pins DB[15:8].", 40 ~{CONVST} (in) "Convert start. The falling edge of this input ends the acquisition period and starts the hold period.", 41 ~{RD} (in) "Synchronization pulse for the parallel output. When C\S\ is low, this serves as the output enable and puts the previous conversion result on the bus.", 42 ~{CS} (in) "Chip select. The falling edge of this input starts the acquisition period.", 47 REFM (power) "Reference ground.", 48 REFM (power) "Reference ground."
part B pins: 4 VA+ (power) "Analog power supplies, 5-V dc", 5 AGND (power) "Analog ground", 8 AGND (power) "Analog ground", 9 VA+ (power) "Analog power supplies, 5-V dc", 10 VA+ (power) "Analog power supplies, 5-V dc", 11 AGND (power) "Analog ground", 12 AGND (power) "Analog ground", 13 VA+ (power) "Analog power supplies, 5-V dc", 14 AGND (power) "Analog ground", 15 AGND (power) "Analog ground", 24 VBD+ (power) "Digital power supply for bus", 25 BDGND (power) "Digital ground for bus interface digital supply", 34 VBD+ (power) "Digital power supply for bus", 35 BDGND (power) "Digital ground for bus interface digital supply", 37 VBD+ (power) "Digital power supply for bus", 43 VA+ (power) "Analog power supplies, 5-V dc", 44 AGND (power) "Analog ground", 45 AGND (power) "Analog ground", 46 VA+ (power) "Analog power supplies, 5-V dc"

## ADS8405IBPFBRG4
designator U?
16-Bit 1.25 MSPS Unipolar Input Micro Power Sampling ADC, -40 to 85 degC, 48-pin QFP (PFB48), Green (RoHS & no Sb/Br); Manufacturer: Texas Instruments; PartNumber: ADS8405IBPFBRG4; # Input Channels: 1; Analog Voltage AV/DD(Max)(V): 5.25; Analog Voltage AV/DD(Min)(V): 4.75; Architecture: SAR; Digital Supply(Min)(V): 2.7; INL(Max)(+/-LSB): 2; Interface: Parallel CMOS; Resolution(Bits): 16; Sample Rate (max)(SPS): 1.25M; SFDR(dB): 90; SINAD(dB): 85; SNR(dB): 86; SubFamily: Precision ADC (<=10MSPS); DatasheetVersion: SLAS427; PackageVersion: 4073176/B, 10/1996; PackageReference: PFB48; PackageDescription: 48-Pin Plastic Flat Pack, Body 7 x 7 mm, Pitch 0.5 mm; Supplier 1: Digi-Key; Supplier Part Number 1: ADS1213U/1KG4-ND; Supplier 2: Mouser; Supplier Part Number 2: 595-ADS1213U/1KG4; Digital Supply(Max)(V): 5.25; Eco-Plan: Green (RoHS & no Sb/Br); Mounting Technology: Surface Mount; Code_JEDEC: MS-026; ComponentLink1Description: Manufacturer URL; ComponentLink1URL: http://www.ti.com/; ComponentLink2Description: Datasheet; ComponentLink2URL: http://www.ti.com/general/docs/lit/getliterature.tsp?genericPartNumber=ADS8405&fileType=pdf; ComponentLink3Description: Package Specification; ComponentLink3URL: http://www.ti.com/lit/ml/mtqf019a/mtqf019a.pdf
footprint TI-PFB48_N (QFP, 48-Leads, Body 7x7mm, Pitch 0.5mm, IPC Medium Density)
footprint TI-PFB48_L (QFP, 48-Leads, Body 7x7mm, Pitch 0.5mm, IPC High Density)
footprint TI-PFB48_M (QFP, 48-Leads, Body 7x7mm, Pitch 0.5mm, IPC Low Density)
part A pins: 1 REFIN (in) "Reference input.", 2 REFOUT (out) "Reference output. Add 1 uF capacitor between the REFOUT pin and REFM pin when internal reference is used.", 3 NC "No connection", 6 IN+ (in) "Noninverting input channel", 7 IN- (in) "Inverting input channel", 16 DB15 (hiz), 17 DB14 (hiz), 18 DB13 (hiz), 19 DB12 (hiz), 20 DB11 (hiz), 21 DB10 (hiz), 22 DB9 (hiz), 23 DB8 (hiz), 26 DB7 (hiz), 27 DB6 (hiz), 28 DB5 (hiz), 29 DB4 (hiz), 30 DB3 (hiz), 31 DB2 (hiz), 32 DB1 (hiz), 33 DB0 (hiz), 36 BUSY (out) "Status output. High when a conversion is in progress.", 38 ~{RESET} (in) "Current conversion is aborted and output latches are cleared (set to zeros) when this pin is asserted low. R\E\S\E\T\ works independantly of C\S\.", 39 BYTE (in) "Byte select input. Used for 8-bit bus reading. 0: No fold back 1: Low byte D[7:0] of the 16 most significant bits is folded back to high byte of the 16 most significant pins DB[15:8].", 40 ~{CONVST} (in) "Convert start. The falling edge of this input ends the acquisition period and starts the hold period.", 41 ~{RD} (in) "Synchronization pulse for the parallel output. When C\S\ is low, this serves as the output enable and puts the previous conversion result on the bus.", 42 ~{CS} (in) "Chip select. The falling edge of this input starts the acquisition period.", 47 REFM (power) "Reference ground.", 48 REFM (power) "Reference ground."
part B pins: 4 VA+ (power) "Analog power supplies, 5-V dc", 5 AGND (power) "Analog ground", 8 AGND (power) "Analog ground", 9 VA+ (power) "Analog power supplies, 5-V dc", 10 VA+ (power) "Analog power supplies, 5-V dc", 11 AGND (power) "Analog ground", 12 AGND (power) "Analog ground", 13 VA+ (power) "Analog power supplies, 5-V dc", 14 AGND (power) "Analog ground", 15 AGND (power) "Analog ground", 24 VBD+ (power) "Digital power supply for bus", 25 BDGND (power) "Digital ground for bus interface digital supply", 34 VBD+ (power) "Digital power supply for bus", 35 BDGND (power) "Digital ground for bus interface digital supply", 37 VBD+ (power) "Digital power supply for bus", 43 VA+ (power) "Analog power supplies, 5-V dc", 44 AGND (power) "Analog ground", 45 AGND (power) "Analog ground", 46 VA+ (power) "Analog power supplies, 5-V dc"

## ADS8405IBPFBT
designator U?
16-Bit 1.25 MSPS Unipolar Input Micro Power Sampling ADC, -40 to 85 degC, 48-pin QFP (PFB48), Green (RoHS & no Sb/Br); Manufacturer: Texas Instruments; PartNumber: ADS8405IBPFBT; # Input Channels: 1; Analog Voltage AV/DD(Max)(V): 5.25; Analog Voltage AV/DD(Min)(V): 4.75; Architecture: SAR; Digital Supply(Min)(V): 2.7; INL(Max)(+/-LSB): 2; Interface: Parallel CMOS; Resolution(Bits): 16; Sample Rate (max)(SPS): 1.25M; SFDR(dB): 90; SINAD(dB): 85; SNR(dB): 86; SubFamily: Precision ADC (<=10MSPS); DatasheetVersion: SLAS427; PackageVersion: 4073176/B, 10/1996; PackageReference: PFB48; PackageDescription: 48-Pin Plastic Flat Pack, Body 7 x 7 mm, Pitch 0.5 mm; Supplier 1: Digi-Key; Supplier Part Number 1: ADS1213UG4-ND; Supplier 2: Newark; Supplier Part Number 2: 73K7068; Supplier 3: Mouser; Supplier Part Number 3: 595-ADS1213UG4; Digital Supply(Max)(V): 5.25; Eco-Plan: Green (RoHS & no Sb/Br); Mounting Technology: Surface Mount; Code_JEDEC: MS-026; ComponentLink1Description: Manufacturer URL; ComponentLink1URL: http://www.ti.com/; ComponentLink2Description: Datasheet; ComponentLink2URL: http://www.ti.com/general/docs/lit/getliterature.tsp?genericPartNumber=ADS8405&fileType=pdf; ComponentLink3Description: Package Specification; ComponentLink3URL: http://www.ti.com/lit/ml/mtqf019a/mtqf019a.pdf
footprint TI-PFB48_N (QFP, 48-Leads, Body 7x7mm, Pitch 0.5mm, IPC Medium Density)
footprint TI-PFB48_L (QFP, 48-Leads, Body 7x7mm, Pitch 0.5mm, IPC High Density)
footprint TI-PFB48_M (QFP, 48-Leads, Body 7x7mm, Pitch 0.5mm, IPC Low Density)
part A pins: 1 REFIN (in) "Reference input.", 2 REFOUT (out) "Reference output. Add 1 uF capacitor between the REFOUT pin and REFM pin when internal reference is used.", 3 NC "No connection", 6 IN+ (in) "Noninverting input channel", 7 IN- (in) "Inverting input channel", 16 DB15 (hiz), 17 DB14 (hiz), 18 DB13 (hiz), 19 DB12 (hiz), 20 DB11 (hiz), 21 DB10 (hiz), 22 DB9 (hiz), 23 DB8 (hiz), 26 DB7 (hiz), 27 DB6 (hiz), 28 DB5 (hiz), 29 DB4 (hiz), 30 DB3 (hiz), 31 DB2 (hiz), 32 DB1 (hiz), 33 DB0 (hiz), 36 BUSY (out) "Status output. High when a conversion is in progress.", 38 ~{RESET} (in) "Current conversion is aborted and output latches are cleared (set to zeros) when this pin is asserted low. R\E\S\E\T\ works independantly of C\S\.", 39 BYTE (in) "Byte select input. Used for 8-bit bus reading. 0: No fold back 1: Low byte D[7:0] of the 16 most significant bits is folded back to high byte of the 16 most significant pins DB[15:8].", 40 ~{CONVST} (in) "Convert start. The falling edge of this input ends the acquisition period and starts the hold period.", 41 ~{RD} (in) "Synchronization pulse for the parallel output. When C\S\ is low, this serves as the output enable and puts the previous conversion result on the bus.", 42 ~{CS} (in) "Chip select. The falling edge of this input starts the acquisition period.", 47 REFM (power) "Reference ground.", 48 REFM (power) "Reference ground."
part B pins: 4 VA+ (power) "Analog power supplies, 5-V dc", 5 AGND (power) "Analog ground", 8 AGND (power) "Analog ground", 9 VA+ (power) "Analog power supplies, 5-V dc", 10 VA+ (power) "Analog power supplies, 5-V dc", 11 AGND (power) "Analog ground", 12 AGND (power) "Analog ground", 13 VA+ (power) "Analog power supplies, 5-V dc", 14 AGND (power) "Analog ground", 15 AGND (power) "Analog ground", 24 VBD+ (power) "Digital power supply for bus", 25 BDGND (power) "Digital ground for bus interface digital supply", 34 VBD+ (power) "Digital power supply for bus", 35 BDGND (power) "Digital ground for bus interface digital supply", 37 VBD+ (power) "Digital power supply for bus", 43 VA+ (power) "Analog power supplies, 5-V dc", 44 AGND (power) "Analog ground", 45 AGND (power) "Analog ground", 46 VA+ (power) "Analog power supplies, 5-V dc"